# Altium footprint library LGA.PcbLib: 13 footprints
Each footprint in its own frame and in the unit in brackets; x right, y up, seen from the top. Pads: shape width x height; smd on the part's side, far side on the other; paste and mask are expansions set on the pad; w line width, h text height; cw(c..) or ccw(c..) is an arc to the next point about the centre after c.
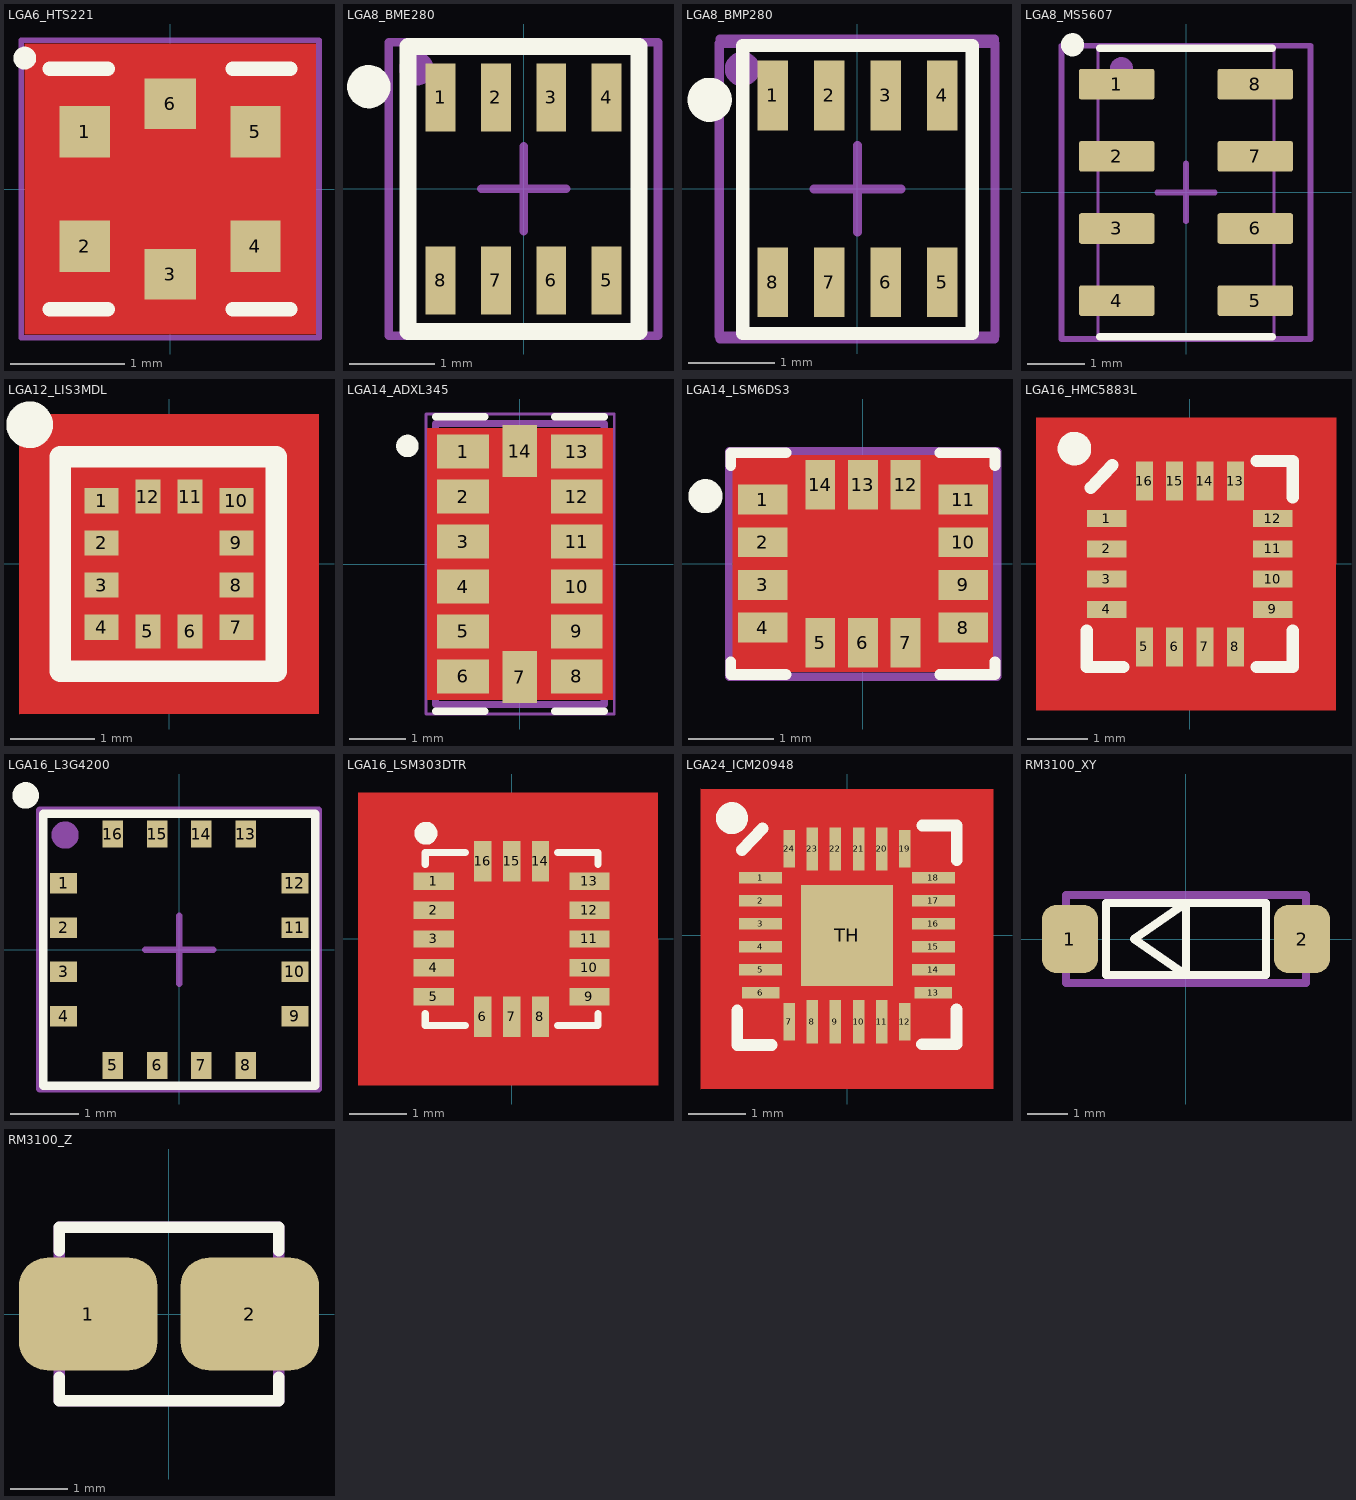
[diagram p0: the footprints below, top view; thin cyan lines are the x and y axes]

## LGA6_HTS221 [mm]
pads (6):
  rect 0.44x0.45 smd: 1(-0.745,0.5) 2(-0.745,-0.5) 4(0.745,-0.5) 5(0.745,0.5)
  rect 0.45x0.44 smd: 3(0,-0.745) 6(0,0.745)
Top Layer:
  pour cut-out: -1.27,-1.27 1.27,-1.27 1.27,1.27 -1.27,1.27
Top Overlay:
  circle w0.1: c-1.27,1.143 r0.05
  lines w0.127: -1.05,-1.05 -0.545,-1.05 ; -1.05,1.05 -0.545,1.05 ; 0.545,-1.05 1.05,-1.05 ; 0.545,1.05 1.05,1.05
Top Solder:
  region: 1.27,-1.27 1.27,1.27 -1.27,1.27 -1.27,-1.27
Top Assembly:
  circle w0.2: c-1.038,1.038 r0.1
  lines w0.05: -1.3,-1.3 1.3,-1.3 1.3,1.3 -1.3,1.3 -1.3,-1.3
  lines w0.1: -0.5,0 0.5,0 ; 0,-0.5 0,0.5
Top Courtyard:
  lines w0.05: -1.3,-1.3 -1.3,1.3 1.3,1.3 1.3,-1.3 -1.3,-1.3
3D body "HLGA-6L.STEP": height 1, standoff 0.1, extent -0.998,-0.999 1.002,1.001

## LGA8_BME280 [mm]
pads (8):
  rect 0.35x0.8 smd: 1(-0.975,1.075) 2(-0.325,1.075) 3(0.325,1.075) 4(0.975,1.075) 5(0.975,-1.075) 6(0.325,-1.075) 7(-0.325,-1.075) 8(-0.975,-1.075)
Top Overlay:
  circle w0.254: c-1.819,1.201 r0.127
  lines w0.2: -1.356,-1.674 -1.356,1.671 1.354,1.671 1.354,-1.674 -1.356,-1.674
Top Assembly:
  circle w0.2: c-1.26,1.415 r0.1
  lines w0.1: -0.5,0 0.5,0 ; 0,-0.5 0,0.5 ; -1.585,-1.726 1.579,-1.726 1.579,1.725 -1.585,1.725 -1.585,-1.726
Top Courtyard:
  lines w0.1: -1.585,-1.726 -1.585,1.725 1.579,1.725 1.579,-1.726 -1.585,-1.726
3D body "BME280.STEP": height 0.93, standoff 0, extent -1.25,-1.25 1.25,1.25

## LGA8_BMP280 [mm]
pads (8):
  rect 0.35x0.8 smd: 1(-0.975,1.075) 2(-0.325,1.075) 3(0.325,1.075) 4(0.975,1.075) 5(0.975,-1.075) 6(0.325,-1.075) 7(-0.325,-1.075) 8(-0.975,-1.075)
Top Overlay:
  circle w0.254: c-1.7,1.025 r0.127
  lines w0.152: -1.321,-1.662 -1.321,1.649 1.321,1.649 1.321,-1.662 -1.321,-1.662
Top Assembly:
  circle w0.2: c-1.325,1.38 r0.1
  lines w0.1: -0.5,0 0.5,0 ; 0,-0.5 0,0.5 ; -1.585,-1.726 1.579,-1.726 1.579,1.725 -1.585,1.725 -1.585,-1.726
Top Courtyard:
  lines w0.1: -1.592,-1.692 -1.592,1.674 1.586,1.674 1.586,-1.692 -1.592,-1.692
3D body "BMP280.STEP": height 1, standoff 0, extent -1.25,-1 1.25,1

## LGA8_MS5607 [mm]
height 0.9
pads (8):
  rrect15% 1.31x0.53 smd: 1(-1.2,1.875)
  rrect16% 1.31x0.53 smd: 2(-1.2,0.625) 3(-1.2,-0.625) 4(-1.2,-1.875) 5(1.2,-1.875) 6(1.2,-0.625) 7(1.2,0.625) 8(1.2,1.875)
Top Overlay:
  circle w0.2: c-1.967,2.558 r0.1
  lines w0.127: -1.5,-2.5 1.5,-2.5 ; -1.5,2.5 1.5,2.5
Top Assembly:
  circle w0.2: c-1.118,2.144 r0.1
  lines w0.05: -1.524,-2.54 1.524,-2.54 1.524,2.54 -1.524,2.54 -1.524,-2.54
  lines w0.1: -0.5,0 0.5,0 ; 0,-0.5 0,0.5
Top Courtyard:
  lines w0.1: -2.159,-2.54 2.159,-2.54 2.159,2.54 -2.159,2.54 -2.159,-2.54
3D body "ms561101ba03-00.stp": height 1.02, standoff 0.07, extent -1.5,-2.5 1.5,2.5

## LGA12_LIS3MDL [mm]
pads (12):
  rect 0.4x0.3 smd: 1(-0.8,0.75) 2(-0.8,0.25) 3(-0.8,-0.25) 4(-0.8,-0.75) 7(0.8,-0.75) 8(0.8,-0.25) 9(0.8,0.25) 10(0.8,0.75)
  rect 0.3x0.4 smd: 5(-0.25,-0.8) 6(0.25,-0.8) 11(0.25,0.8) 12(-0.25,0.8)
Top Layer:
  pour cut-out: -1.778,-1.778 1.778,-1.778 1.778,1.778 -1.778,1.778
Top Overlay:
  circle w0.3: c-1.651,1.651 r0.127
  lines w0.254: -1.29,-1.27 -1.29,1.27 1.27,1.27 1.27,-1.27 -1.29,-1.27
Top Solder:
  rectangle: -1.162,-1.149 1.143,1.143
Top Assembly:
  circle w0.2: c-0.91,0.937 r0.1
  lines w0.1: -0.5,0 0.5,0 ; 0,-0.5 0,0.5 ; -1.397,-1.397 -1.397,1.397 1.397,1.397 1.397,-1.397 -1.397,-1.397
Top Courtyard:
  lines w0.1: -1.397,-1.397 -1.397,1.397 1.397,1.397 1.397,-1.397 -1.397,-1.397
3D body "step_temp.STEP": height 1, standoff 0, extent -1,-1 1,1

## LGA14_ADXL345 [mm]
pads (14):
  rect 0.92x0.61 smd: 1(-1.01,2) 2(-1.01,1.2) 3(-1.01,0.4) 4(-1.01,-0.4) 5(-1.01,-1.2) 6(-1.01,-2) 8(1.01,-2) 9(1.01,-1.2) 10(1.01,-0.4) 11(1.01,0.4) 12(1.01,1.2) 13(1.01,2)
  rect 0.61x0.92 smd: 7(0,-2.01) 14(0,2.01)
Top Layer:
  pour cut-out: -1.651,-2.413 1.651,-2.413 1.651,2.413 -1.651,2.413
Top Overlay:
  circle w0.2: c-2,2.1 r0.1
  lines w0.127: -1.5,-2.619 -0.62,-2.619 ; -1.5,2.619 -0.62,2.619 ; 0.62,-2.619 1.5,-2.619 ; 0.62,2.619 1.5,2.619
Top Solder:
  rectangle: -1.162,-2.413 1.143,2.413
Top Assembly:
  circle w0.2: c-1.158,2.158 r0.1
  lines w0.1: -0.5,0 0.5,0 ; 0,-0.5 0,0.5
  lines w0.127: -1.5,-2.5 1.5,-2.5 1.5,2.5 -1.5,2.5 -1.5,-2.5
Top Courtyard:
  lines w0.05: -1.669,-2.668 1.678,-2.668 1.678,2.669 -1.669,2.669 -1.669,-2.668
3D body "User Library-ADXL345.STEP": height 1, standoff 0, extent -1.5,-2.5 1.5,2.5

## LGA14_LSM6DS3 [mm]
pads (14):
  rect 0.58x0.35 smd: 1(-1.175,0.75) 2(-1.175,0.25) 3(-1.175,-0.25) 4(-1.175,-0.75) 8(1.175,-0.75) 9(1.175,-0.25) 10(1.175,0.25) 11(1.175,0.75)
  rect 0.35x0.58 smd: 5(-0.5,-0.925) 6(0,-0.925) 7(0.5,-0.925) 12(0.5,0.925) 13(0,0.925) 14(-0.5,0.925)
Top Layer:
  pour cut-out: -1.524,-1.27 1.524,-1.27 1.524,1.27 -1.524,1.27
Top Overlay:
  circle w0.2: c-1.845,0.791 r0.1
  lines w0.127: -1.55,-1.15 -1.55,-1.3 -0.9,-1.3 ; -1.55,1.15 -1.55,1.3 -0.9,1.3 ; 0.9,-1.3 1.55,-1.3 1.55,-1.15 ; 0.9,1.3 1.55,1.3 1.55,1.15
Top Solder:
  rectangle: -1.564,-1.317 1.568,1.317
Top Assembly:
  circle w0.2: c-1.212,0.993 r0.1
  lines w0.1: -0.5,0 0.5,0 ; 0,-0.5 0,0.5 ; -1.565,-1.328 1.572,-1.328 1.572,1.319 -1.565,1.319 -1.565,-1.328
Top Courtyard:
  lines w0.1: -1.565,-1.328 1.572,-1.328 1.572,1.319 -1.565,1.319 -1.565,-1.328
3D body "User Library-LGA-14 2_5x3-1.STEP": height 0.9, standoff 0.04, extent -1.5,-1.25 1.5,1.25

## LGA16_HMC5883L [mm]
pads (16):
  rect 0.65x0.28 smd: 1(-1.37,0.75) 2(-1.37,0.25) 3(-1.37,-0.25) 4(-1.37,-0.75) 9(1.37,-0.75) 10(1.37,-0.25) 11(1.37,0.25) 12(1.37,0.75)
  rect 0.28x0.65 smd: 5(-0.75,-1.37) 6(-0.25,-1.37) 7(0.25,-1.37) 8(0.75,-1.37) 13(0.75,1.37) 14(0.25,1.37) 15(-0.25,1.37) 16(-0.75,1.37)
Top Layer:
  pour cut-out: -2.54,-2.413 2.413,-2.413 2.413,2.413 -2.54,2.413
Top Overlay:
  circle w0.3: c-1.905,1.905 r0.127
  lines w0.203: -1.7,-1.1 -1.7,-1.7 -1.1,-1.7 ; -1.635,1.26 -1.28,1.635 ; 1.1,-1.7 1.7,-1.7 1.7,-1.1 ; 1.1,1.7 1.7,1.7 1.7,1.1
Top Solder:
  rectangle: -1.905,-1.905 1.905,1.905
Top Assembly:
  circle w0.2: c-1.405,1.4 r0.1
  lines w0.1: -0.5,0 0.5,0 ; 0,-0.5 0,0.5 ; -1.772,-1.775 -1.772,1.772 1.793,1.772 1.793,-1.775 -1.772,-1.775
Top Courtyard:
  lines w0.1: -1.772,-1.775 1.793,-1.775 1.793,1.772 -1.772,1.772 -1.772,-1.775

## LGA16_L3G4200 [mm]
pads (16):
  rect 0.4x0.3 smd: 1(-1.7,0.975) 2(-1.7,0.325) 3(-1.7,-0.325) 4(-1.7,-0.975) 9(1.7,-0.975) 10(1.7,-0.325) 11(1.7,0.325) 12(1.7,0.975)
  rect 0.3x0.4 smd: 5(-0.975,-1.7) 6(-0.325,-1.7) 7(0.325,-1.7) 8(0.975,-1.7) 13(0.975,1.7) 14(0.325,1.7) 15(-0.325,1.7) 16(-0.975,1.7)
Top Overlay:
  circle w0.2: c-2.256,2.267 r0.094
  lines w0.127: -2,-2 2,-2 2,2 -2,2 -2,-2
Top Assembly:
  circle w0.2: c-1.677,1.684 r0.1
  lines w0.1: -0.5,0 0.5,0 ; 0,-0.5 0,0.5 ; -2.051,-2.045 2.049,-2.045 2.049,2.052 -2.051,2.052 -2.051,-2.045
Top Courtyard:
  lines w0.1: -2.051,-2.045 -2.051,2.052 2.049,2.052 2.049,-2.045 -2.051,-2.045
3D body "User Library-LGA-16.STEP": height 0.98, standoff 0, extent -2,-2 2,2

## LGA16_LSM303DTR [mm]
pads (16):
  rect 0.7x0.3 smd: 1(-1.35,1) 2(-1.35,0.5) 3(-1.35,0) 4(-1.35,-0.5) 5(-1.35,-1) 9(1.35,-1) 10(1.35,-0.5) 11(1.35,0) 12(1.35,0.5) 13(1.35,1)
  rect 0.3x0.7 smd: 6(-0.5,-1.35) 7(0,-1.35) 8(0.5,-1.35) 14(0.5,1.35) 15(0,1.35) 16(-0.5,1.35)
Top Layer:
  pour cut-out: -2.667,-2.54 2.54,-2.54 2.54,2.54 -2.667,2.54
Top Overlay:
  circle w0.2: c-1.488,1.836 r0.099
  lines w0.127: -1.5,-1.3 -1.5,-1.5 -0.8,-1.5 ; -1.5,1.3 -1.5,1.5 -0.8,1.5 ; 0.8,-1.5 1.5,-1.5 1.5,-1.3 ; 0.8,1.5 1.5,1.5 1.5,1.3
Top Solder:
  region: 1.802,-1.814 1.802,1.803 -1.811,1.803 -1.811,-1.814
Top Assembly:
  circle w0.2: c-1.459,1.453 r0.1
  circle w0.05: c1.458,-0.788 r0.133
  lines w0.05: 0.853,-1.253 0.599,-0.999 ; 0.853,-0.745 0.599,-0.999 ; 1.038,-1.427 1.292,-1.681 ; 1.292,-0.999 0.599,-0.999 ; 1.292,-1.016 1.292,-1.681 ; 1.546,-1.427 1.292,-1.681
  lines w0.1: -0.5,0 0.5,0 ; 0,-0.5 0,0.5
  lines w0.2: -1.905,-1.905 -1.905,1.875 1.889,1.875 1.889,-1.905 -1.905,-1.905
  text "X" at 0.442,-1.375 h0.4
  text "Z" at 1.438,-0.571 h0.4
  text "Y" at 1.403,-1.327 h0.4
Top Courtyard:
  lines w0.2: -1.905,-1.905 -1.905,1.875 1.889,1.875 1.889,-1.905 -1.905,-1.905
3D body "step_temp.STEP": height 1, standoff 0, extent -1.5,-1.5 1.5,1.5

## LGA24_ICM20948 [mm]
pads (25):
  rect 0.75x0.2 smd: 1(-1.5,1) 2(-1.5,0.6) 3(-1.5,0.2) 4(-1.5,-0.2) 5(-1.5,-0.6) 14(1.5,-0.6) 15(1.5,-0.2) 16(1.5,0.2) 17(1.5,0.6) 18(1.5,1)
  rect 0.65x0.2 smd: 6(-1.5,-1) 13(1.5,-1)
  rect 0.2x0.65 smd: 7(-1,-1.5) 12(1,-1.5) 19(1,1.5) 24(-1,1.5)
  rect 0.2x0.75 smd: 8(-0.6,-1.5) 9(-0.2,-1.5) 10(0.2,-1.5) 11(0.6,-1.5) 20(0.6,1.5) 21(0.2,1.5) 22(-0.2,1.5) 23(-0.6,1.5)
  rect 1.59x1.75 smd: TH(0,0)
Top Layer:
  pour cut-out: -2.54,-2.667 2.54,-2.667 2.54,2.54 -2.54,2.54
Top Overlay:
  circle w0.3: c-1.997,2.034 r0.127
  lines w0.203: -1.905,-1.305 -1.905,-1.905 -1.305,-1.905 ; -1.823,1.481 -1.468,1.856 ; 1.301,-1.888 1.901,-1.888 1.901,-1.288 ; 1.305,1.905 1.905,1.905 1.905,1.305
Top Solder:
  rectangle: -1.162,-1.143 1.143,1.15
Top Assembly:
  circle w0.2: c-1.756,1.782 r0.1
  lines w0.1: -0.5,0 0.5,0 ; 0,-0.5 0,0.5 ; -2.1,-2.102 2.106,-2.102 2.106,2.11 -2.1,2.11 -2.1,-2.102
Top Courtyard:
  lines w0.05: -2.125,-2.125 2.125,-2.125 2.125,2.125 -2.125,2.125 -2.125,-2.125
3D body "ICM-20948.stp": height 1.05, standoff 0, extent -1.55,-1.55 1.55,1.55

## RM3100_XY [mm]
pads (2):
  rrect50% 1.4x1.7 smd: 1(-2.9,0) 2(2.9,0)
Top Overlay:
  lines w0.2: -2,-0.9 2,-0.9 2,0.9 -2,0.9 -2,-0.9 ; -1.3,0 0,-0.9 0,0.9 -1.3,0
Top Assembly:
  lines w0.2: -3,-1.1 -3,1.1 3,1.1 3,-1.1 -3,-1.1
Top Courtyard:
  lines w0.2: -3,-1.1 -3,1.1 3,1.1 3,-1.1 -3,-1.1
3D body: height 2.2, standoff 0, extent -3.033,-1.134 3.034,1.134

## RM3100_Z [mm]
pads (2):
  rrect50% 2.4x1.95 smd: 1(-1.4,0) 2(1.4,0)
Top Overlay:
  lines w0.2: -1.9,-1.1 -1.9,-1.5 1.9,-1.5 1.9,-1.1 ; -1.9,1.1 -1.9,1.5 1.9,1.5 1.9,1.1
Top Assembly:
  lines w0.2: -1.9,-1.5 1.9,-1.5 1.9,1.5 -1.9,1.5 -1.9,-1.5
Top Courtyard:
  lines w0.2: -1.9,-1.5 -1.9,1.5 1.9,1.5 1.9,-1.5 -1.9,-1.5
3D body: height 2, standoff 0, extent -1.9,-1.5 1.9,1.5
3D body: height 6.35, standoff 0, extent -1.15,-1.3 1.15,1.3